# EAGLE library part THN_15-2422 (library dc-dc)
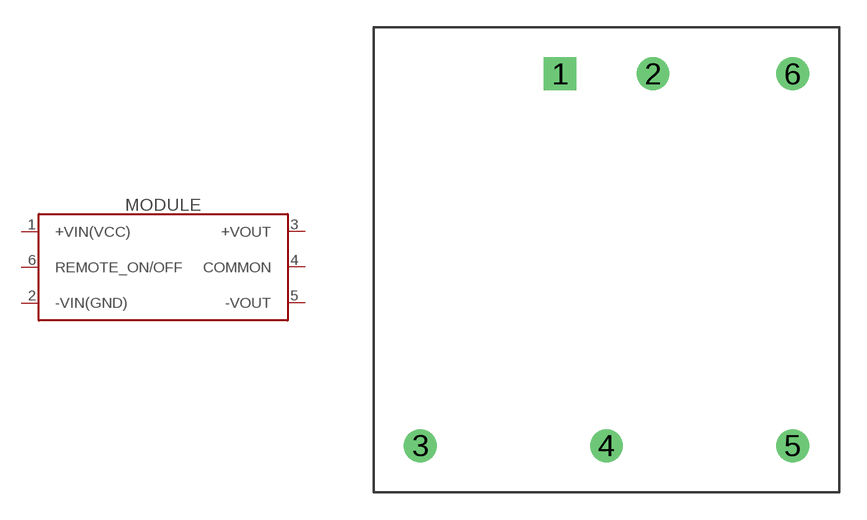
[diagram p26: symbol with the pads of THN_15-2422; footprint THN_15-2422]

Designator prefix MODULE

## THN_15-2422 (MANF: Traco Power; MANF#: THN15-1222; MAXIMUM_PACKAGE_HEIGHT: 10.4mm; PARTREV: March 16, 2021; STANDARD: Manufacturer Recommendations)  [THN_15-2422]
1  +VIN(VCC)  in
2  -VIN(GND)  in
3  +VOUT  out
4  COMMON  pas
5  -VOUT  out
6  REMOTE_ON/OFF  in

## Footprint THN_15-2422 (pad centres in mm)
drill 1.2 pad 1.8 square: 1 -2.54,10.16
drill 1.2 pad 1.8: 2 2.54,10.16; 3 -10.16,-10.16; 4 0,-10.16; 5 10.16,-10.16; 6 10.16,10.16